# Altium integrated library MOSFETs.IntLib: 11 symbols
Pins are listed as number, name and electrical type; pins without a type are passive.

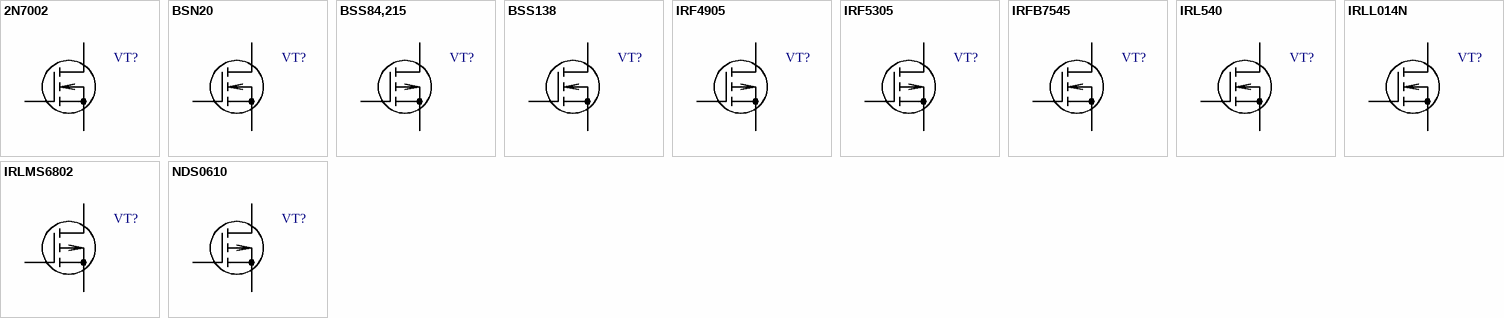
[diagram p0: symbols 2N7002 to NDS0610]

## 2N7002
designator VT?  (value not drawn)
60V Single N-Channel MOSFET 115mA; Manufacturer: ON Semiconductor; PartNumber: 2N7002; 1Ccode: М00024501; 1Cname: 2N7002LT1 (2N7002KT1G, T2N7002AK,LM) ONS; 1Cgroup: 01010104; 1Carticle: 1694; Name: Транзистор 2N7002; 1CfullName: 2N7002LT1 (2N7002KT1G, T2N7002AK,LM) ONS; Case: SOT-23; ComponentLink1Description: DatasheetLink; ComponentLink1URL: *; ChannelPolarity: N-Channel
footprint SOT-23 (3-Leads, Body 2,90x2,45mm, Pitch 0,95mm, IPC Low Density); pin to pad 2>3 3>2
pins: 1 G, 2 D, 3 S
1 alternate drawing of the same symbol

## BSN20
designator VT?  (value not drawn)
60V Single N-Channel Trench MOSFET 265mA; PartNumber: BSN20; 1Cgroup: 01010104; Name: Транзистор BSN20; Case: SOT-23; ComponentLink1Description: DatasheetLink; ComponentLink1URL: *; ChannelPolarity: N-Channel
footprint SOT-23 (3-Leads, Body 2,90x2,45mm, Pitch 0,95mm, IPC Low Density); pin to pad 2>3 3>2
pins: 1 G, 2 D, 3 S
1 alternate drawing of the same symbol

## BSS84,215
designator VT?  (value not drawn)
-50V -0.13A 10 Ohm vertical DMOS P-Channel transistor; Manufacturer: Nexperia; PartNumber: BSS84,215; 1Ccode: М00054291; 1Cname: Транзистор BSS84.215 NXP; 1Cgroup: 01010104; 1Carticle: 42946; Name: Транзистор BSS84,215; 1CfullName: Транзистор BSS84.215 NXP; Case: SOT-23; ComponentLink1Description: DatasheetLink; ComponentLink1URL: https://assets.nexperia.com/documents/data-sheet/BSS84.pdf; ChannelPolarity: P-Channel
footprint SOT-23 (3-Leads, Body 2,90x2,45mm, Pitch 0,95mm, IPC Low Density)
pins: 1 G, 2 S, 3 D
1 alternate drawing of the same symbol

## BSS138
designator VT?  (value not drawn)
Small Signal N-Channel MOSFET 50V 220mA; PartNumber: BSS138; 1Ccode: М00041810; 1Cname: Транзистор BSS138; 1Cgroup: 01010104; 1Carticle: 30894; 1CfullName: Транзистор BSS138; Name: Транзистор BSS138; Case: SOT-23; ComponentLink1Description: DatasheetLink; ComponentLink1URL: *; ChannelPolarity: N-Channel
footprint SOT-23 (3-Leads, Body 2,90x2,45mm, Pitch 0,95mm, IPC Low Density); pin to pad 2>3 3>2
pins: 1 G, 2 D, 3 S
1 alternate drawing of the same symbol

## IRF4905
designator VT?  (value not drawn)
-55V -74A 20mOhm Single P-Channel Power MOSFET; 1Ccode: *; 1Cname: *; 1CfullName: *; 1Cgroup: *; 1Carticle: *; Manufacturer: *; Name: *; PartNumber: *; Case: *; ComponentLink2Description: DatasheetLink; ComponentLink2URL: *
footprint TO-220 (TO-220HC)
pins: 1 G, 2 D, 3 S
1 alternate drawing of the same symbol

## IRF5305
designator VT?  (value not drawn)
-55V -31A 60mOhm Single P-Channel Power MOSFET; 1Ccode: *; 1Cname: *; 1CfullName: *; 1Cgroup: *; 1Carticle: *; Manufacturer: *; Name: *; PartNumber: *; Case: *; ComponentLink1Description: DatasheetLink; ComponentLink1URL: *
footprint TO-220 (TO-220HC)
pins: 1 G, 2 D, 3 S
1 alternate drawing of the same symbol

## IRFB7545
designator VT?  (value not drawn)
60V 95A Single N-Channel Power MOSFET; 1Ccode: *; 1Cname: *; 1CfullName: *; 1Cgroup: *; 1Carticle: *; Manufacturer: *; Name: *; PartNumber: *; Case: *; ComponentLink1Description: DatasheetLink; ComponentLink1URL: *
footprint TO-220 (TO-220HC)
pins: 1 G, 2 D, 3 S
1 alternate drawing of the same symbol

## IRL540
designator VT?  (value not drawn)
100V Single N-Channel Power MOSFET; 1Ccode: *; 1Cname: *; 1CfullName: *; 1Cgroup: *; 1Carticle: *; Manufacturer: *; Name: *; PartNumber: *; Case: *; ComponentLink1Description: DatasheetLink; ComponentLink1URL: *
footprint TO-220 (TO-220HC)
pins: 1 G, 2 D, 3 S
1 alternate drawing of the same symbol

## IRLL014N
designator VT?  (value not drawn)
55V Single N-Channel HEXFET Power MOSFET; 1Ccode: *; 1Cname: *; 1CfullName: *; 1Cgroup: *; 1Carticle: *; Manufacturer: *; Name: *; PartNumber: *; Case: *; ComponentLink1Description: DatasheetLink; ComponentLink1URL: *
footprint SOT-223 (SOT223, 4-Leads, Body 6,50x7,00mm (avg), Pitch 2,30mm, IPC Low Density)
pins: 1 G, 2 D, 3 S
1 alternate drawing of the same symbol

## IRLMS6802
designator VT?  (value not drawn)
-20V -5.6A 50mOhm Single P-Channel Power MOSFET; 1Ccode: *; 1Cname: *; 1CfullName: *; 1Cgroup: *; 1Carticle: *; Manufacturer: *; Name: *; PartNumber: *; Case: *; ComponentLink1Description: DatasheetLink; ComponentLink1URL: *
footprint TSOP-6 (SOIC, 8-Leads, Body 4,90x3,90mm, Pitch 1,27mm, IPC Low Density)
pins: 1 D, 2 D, 3 G, 4 S, 5 D, 6 D
1 alternate drawing of the same symbol

## NDS0610
designator VT?  (value not drawn)
-60V -0.12A 10 Ohm Single P-Channel MOSFET; Manufacturer: ON Semiconductor; PartNumber: NDS0610; Name: Транзистор NDS0610; 1Ccode: *; 1Cname: *; 1CfullName: *; 1Cgroup: *; 1Carticle: *; Case: SOT-23; ComponentLink1Description: DatasheetLink; ComponentLink1URL: *; ChannelPolarity: P-Channel
footprint SOT-23 (3-Leads, Body 2,90x2,45mm, Pitch 0,95mm, IPC Low Density)
pins: 1 G, 2 S, 3 D
1 alternate drawing of the same symbol